# EAGLE library part THVD1450D (library THVD1450D)
3.3-V to 5-V RS-485 transceiver with +/-18-kV IEC ESD protection Source: Datasheet <http://www.ti.com/lit/gpn/THVD1450>
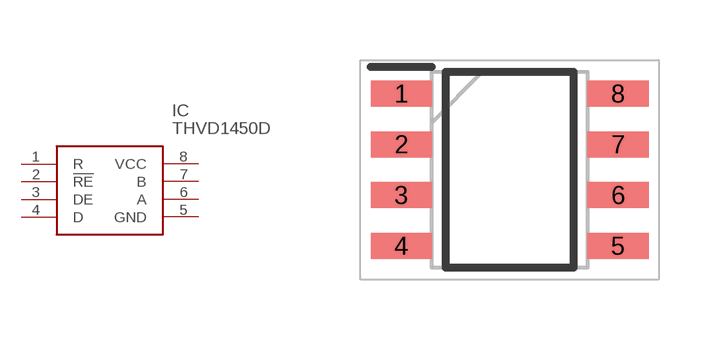
[diagram p0: symbol with the pads of SOIC127P600X175-8N; footprint SOIC127P600X175-8N]

Designator prefix IC

## THVD1450D (Arrow_Part_Number: THVD1450D; Arrow_Price-Stock: https://www.arrow.com/en/products/thvd1450d/texas-instruments?region=europe; Description: 3.3-V to 5-V RS-485 transceiver with +/-18-kV IEC ESD protection; Height: 1.75mm; Manufacturer_Name: Texas Instruments; Manufacturer_Part_Number: THVD1450D; Mouser_Part_Number: 595-THVD1450D; Mouser_Price-Stock: https://www.mouser.co.uk/ProductDetail/Texas-Instruments/THVD1450D?qs=chTDxNqvsylemUKR9F4kpw%3D%3D)  [SOIC127P600X175-8N]
1  R
2  !RE
3  DE
4  D
5  GND
6  A
7  B
8  VCC

## Footprint SOIC127P600X175-8N (pad centres in mm)
(D0008A-H=1.75
smd 1.528 x 0.65: 1 -2.711,1.905; 2 -2.711,0.635; 3 -2.711,-0.635; 4 -2.711,-1.905; 5 2.711,-1.905; 6 2.711,-0.635; 7 2.711,0.635; 8 2.711,1.905